# EAGLE library part 805-321/000-006 (library con-wago_805)
Serie 805, Stand: 01.01.2012. Die jeweils aktuellen Daten zu diesem Artikel finden Sie in unserem Produktkatalog, den Sie unter www.wago.com einsehen können. As of: 01/01/2012. Please find the newest data for this article in our product catalogue, which can be viewed under www.wago.com.
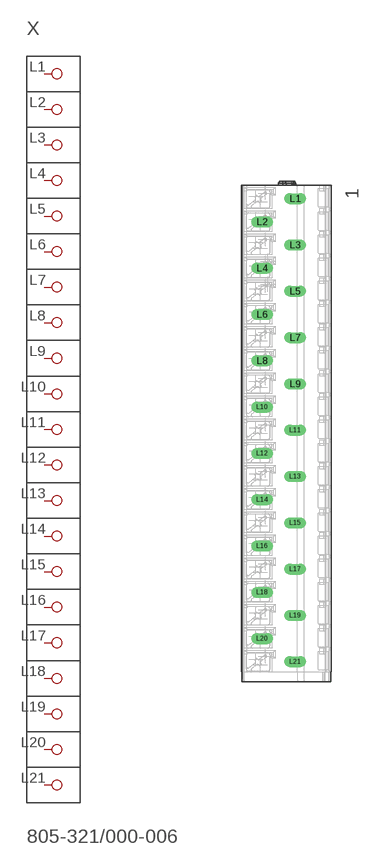
[diagram p72: symbol with the pads of P-805-321; footprint P-805-321]

Designator prefix X

## 805-321/000-006  [P-805-321]
L1  P1
L2  P2
L3  P3
L4  P4
L5  P5
L6  P6
L7  P7
L8  P8
L9  P9
L10  P10
L11  P11
L12  P12
L13  P13
L14  P14
L15  P15
L16  P16
L17  P17
L18  P18
L19  P19
L20  P20
L21  P21

## Footprint P-805-321 (pad centres in mm)
drill 1.1 long: L1 1.3,35.2; L2 -3.7,31.7; L3 1.3,28.2; L4 -3.7,24.7; L5 1.3,21.2; L6 -3.7,17.7; L7 1.3,14.2; L8 -3.7,10.7; L9 1.3,7.2; L10 -3.7,3.7; L11 1.3,0.2; L12 -3.7,-3.3; L13 1.3,-6.8; L14 -3.7,-10.3; L15 1.3,-13.8; L16 -3.7,-17.3; L17 1.3,-20.8; L18 -3.7,-24.3; L19 1.3,-27.8; L20 -3.7,-31.3; L21 1.3,-34.8